# EAGLE library part M20-8760342 (library Solar)
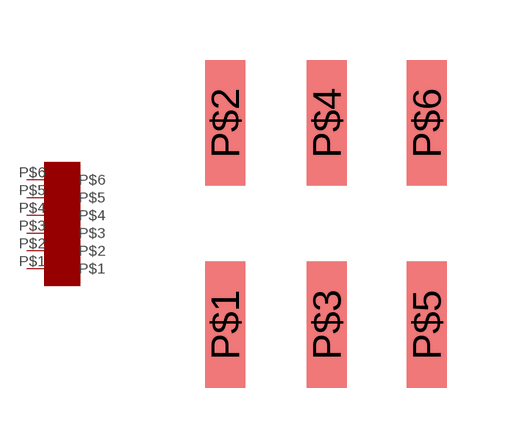
[diagram p1: symbol with the pads of M20-8760342; footprint M20-8760342]

Designator prefix -

## M20-8760342 (HEIGHT: 8.64)  [M20-8760342]
P$1  P$1
P$2  P$2
P$3  P$3
P$4  P$4
P$5  P$5
P$6  P$6

## Footprint M20-8760342 (pad centres in mm)
smd 1 x 3.15: P$1 0.5,1.575; P$2 0.5,6.625; P$3 3.04,1.575; P$4 3.04,6.625; P$5 5.54,1.575; P$6 5.54,6.625